# EAGLE library part TCS230D (library MSP430fr24333)
Light To Frequency & Light To Voltage TriColor Sensor LTF Source: Datasheet <https://componentsearchengine.com/Datasheets/1/TCS230D.pdf>
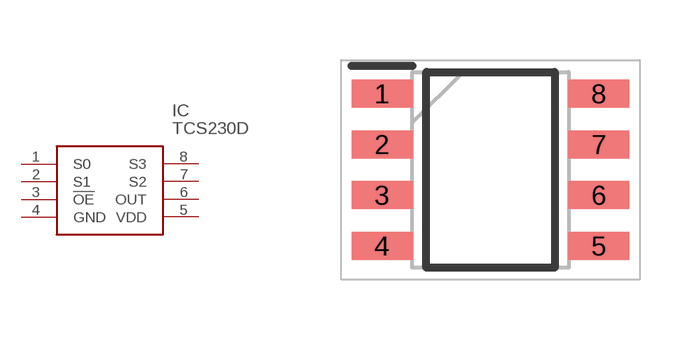
[diagram p9: symbol with the pads of SOIC127P600X175-8N; footprint SOIC127P600X175-8N]

Designator prefix IC

## TCS230D (DESCRIPTION: Light To Frequency & Light To Voltage TriColor Sensor LTF; HEIGHT: 1.75mm; MANUFACTURER_NAME: ams; MANUFACTURER_PART_NUMBER: TCS230D; MOUSER_PART_NUMBER: 856-TCS230D; MOUSER_PRICE-STOCK: https://www.mouser.co.uk/ProductDetail/ams/TCS230D?qs=QSsYuNME6mOiBD6cVKre3w%3D%3D)  [SOIC127P600X175-8N]
1  S0  in
2  S1  in
3  !OE  in
4  GND  pwr
5  VDD  pwr
6  OUT  out
7  S2  in
8  S3  in

## Footprint SOIC127P600X175-8N (pad centres in mm)
SOIC-8 - Package D
smd 1.525 x 0.7: 1 -2.712,1.905; 2 -2.712,0.635; 3 -2.712,-0.635; 4 -2.712,-1.905; 5 2.712,-1.905; 6 2.712,-0.635; 7 2.712,0.635; 8 2.712,1.905